# Altium schematic symbol library POWER.SchLib: 28 symbols
Pins are listed as number, name and electrical type; pins without a type are passive.

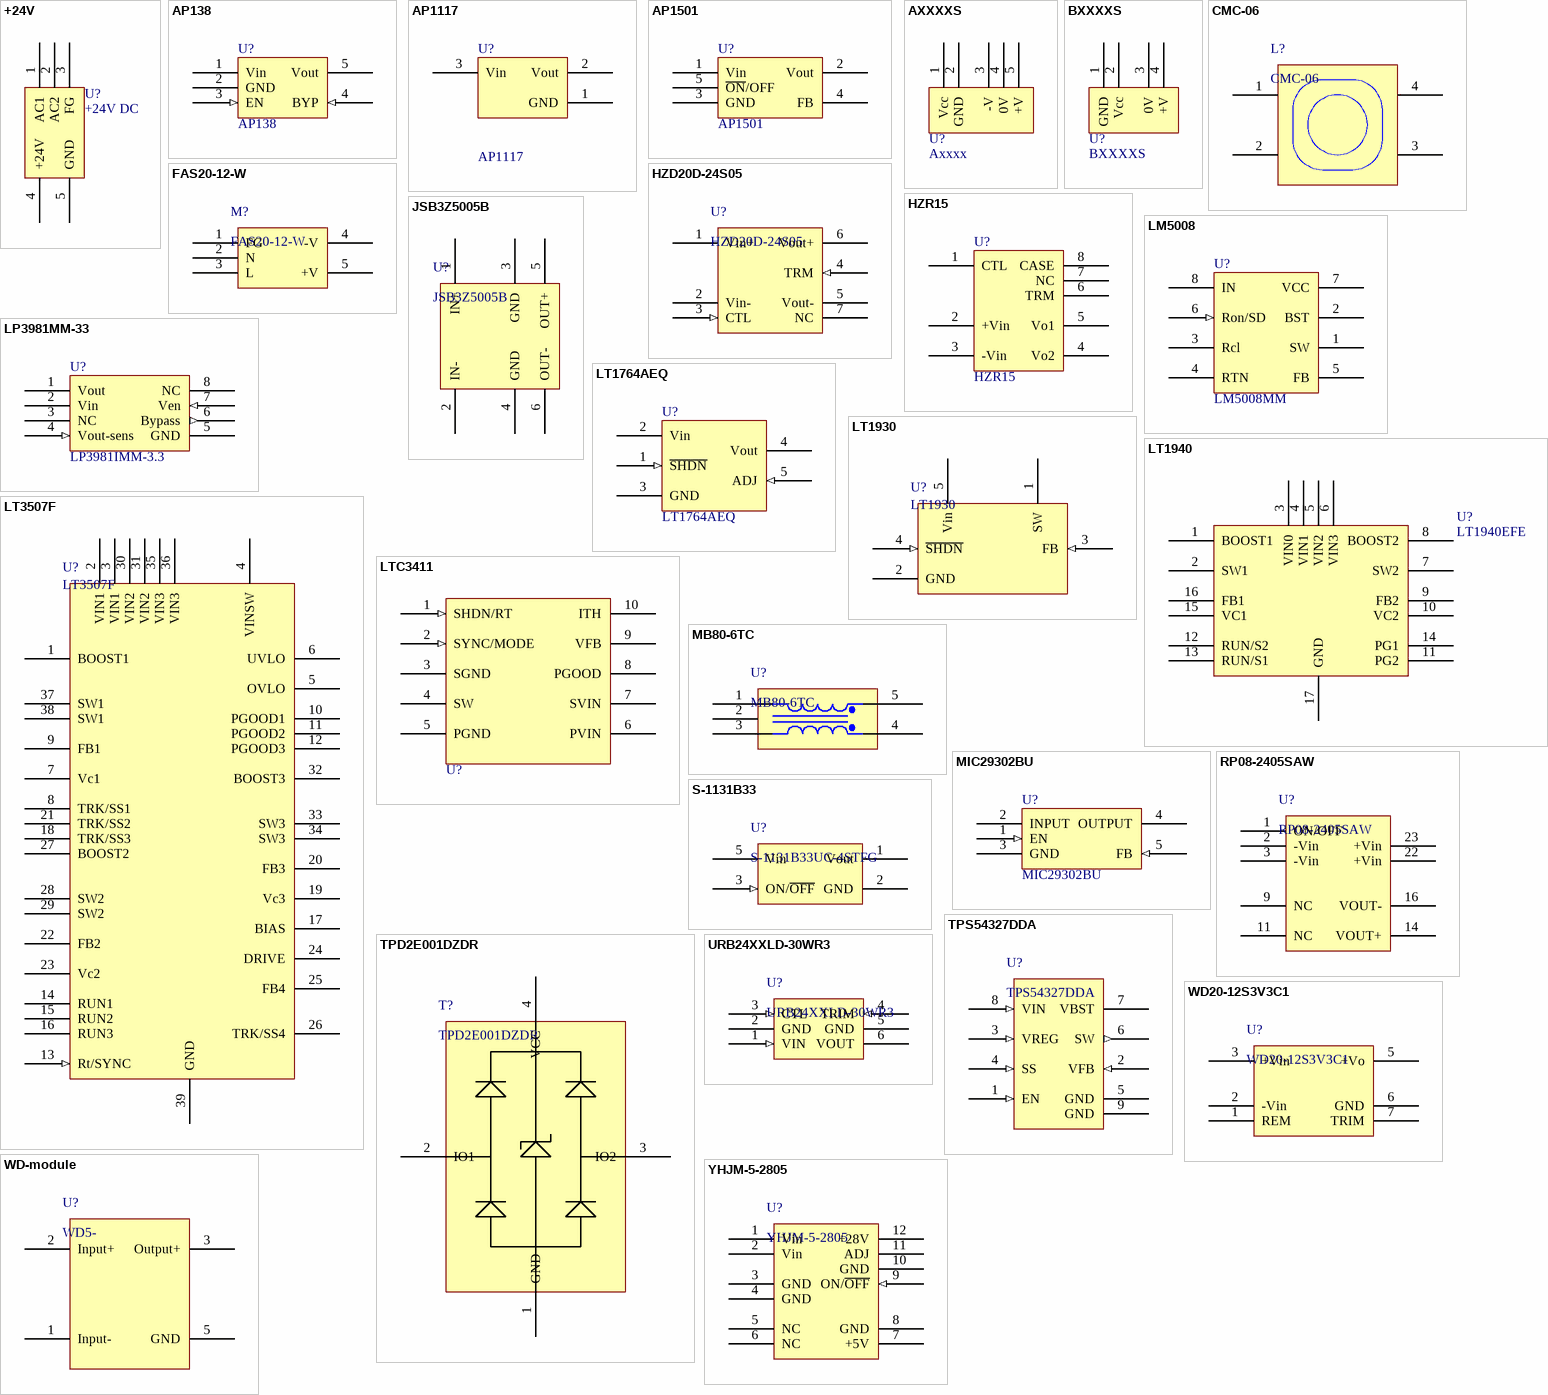
[diagram p0: symbols +24V to YHJM-5-2805]

## +24V
designator U?, comment +24V DC
AC-DC Module; Value: +24V
footprint +12v (ac220v->+12v,+24v)
pins: 1 AC1 (power), 2 AC2 (power), 3 FG (power), 4 +24V (power), 5 GND (power)

## AP138
designator U?
LDO; Value: AP138
footprint SO-G5/P.95 (SOT-23/SC-74A; 5 Leads; Body 3.1 x 3 mm, inc. leads (LxW max))
pins: 1 Vin (power), 2 GND (power), 3 EN (in), 4 BYP (in), 5 Vout (power)

## AP1117
designator U?
LDO; Value: AP1117
footprint SOT223-3L (FOR AP1117)
pins: 1 GND (power), 2 Vout (power), 3 Vin (power)

## AP1501
designator U?
3A DC-DC; Company: Anachip; Value: AP1501
footprint TO263-5L
pins: 1 Vin (power), 2 Vout (power), 3 GND (power), 4 FB (power), 5 ~{ON}/OFF (power)

## AXXXXS
designator U?, comment Axxxx
DC-DC; Value: Axxxx
footprint AXXXXS (DC-DC POWER)
pins: 1 Vcc (power), 2 GND (power), 3 -V (power), 4 0V (power), 5 +V (power)

## BXXXXS
designator U?
DC-DC; Value: BxxxxS
footprint BXXXXS (DC-DC POWER 5V-5V)
pins: 1 GND (power), 2 Vcc (power), 3 0V (power), 4 +V (power)

## CMC-06
designator L?
COMMON MODE FILTER
footprint CMC-06 (Footprint not found)
pins: 1, 2, 3, 4

## FAS20-12-W
designator M?
footprint FAS20-20/30W
pins: 1 FG (power), 2 N (power), 3 L (power), 4 -V (power), 5 +V (power)

## HZD20D-24S05
designator U?
DCDC
footprint HZD20D-24S05 (DCDC)
pins: 1 Vin+, 2 Vin-, 3 CTL (in), 4 TRM (in), 5 Vout-, 6 Vout+, 7 NC

## HZR15
designator U?
DC/AC RING POWER MODULE
footprint HRZ15 (DC-AC RING SOURCE)
pins: 1 CTL, 2 +Vin (power), 3 -Vin (power), 4 Vo2 (power), 5 Vo1 (power), 6 TRM, 7 NC, 8 CASE

## JSB3Z5005B
designator U?
直流滤波器
footprint JSB3Z5005B (直流滤波器)
pins: 1 IN+, 2 IN-, 3 GND, 4 GND, 5 OUT+, 6 OUT-

## LM5008
designator U?, comment LM5008MM
SWITCHING REGULATOR; Company: NSC
footprint MSOP8
pins: 1 SW (power), 2 BST, 3 Rcl, 4 RTN, 5 FB, 6 Ron/SD (in), 7 VCC (power), 8 IN (power)

## LP3981MM-33
designator U?, comment LP3981IMM-3.3
LDO; Value: LP3981MM-33
footprint MSOP-8 (25.6mil,189mil HIGHT)
pins: 1 Vout (power), 2 Vin (power), 3 NC (hiz), 4 Vout-sens (in), 5 GND (power), 6 Bypass (out), 7 Ven (in), 8 NC (hiz)

## LT1764AEQ
designator U?
footprint TO263-5L
pins: 1 ~{SHDN} (in), 2 Vin (power), 3 GND (power), 4 Vout (power), 5 ADJ (in)

## LT1930
designator U?
1A 2.2MHz Step-up DC/DC
footprint SOT23-5 (SOT23-5 FOR LT1930)
pins: 1 SW (power), 2 GND (power), 3 FB (in), 4 ~{SHDN} (in), 5 Vin (power)

## LT1940
designator U?, comment LT1940EFE
DC-DC; Value: LT1940EFE
footprint TSSOP16(LT1940)
pins: 1 BOOST1 (power), 2 SW1 (power), 3 VIN0 (power), 4 VIN1 (power), 5 VIN2 (power), 6 VIN3 (power), 7 SW2 (power), 8 BOOST2 (power), 9 FB2 (power), 10 VC2 (power), 11 PG2 (oc), 12 RUN/S2 (power), 13 RUN/S1 (power), 14 PG1 (oc), 15 VC1 (power), 16 FB1 (power), 17 GND (power)

## LT3507F
designator U?
Triple Monolithic Step-down Regulator with LDO
footprint QFN38 (For LT3507F)
pins: 1 BOOST1 (power), 2 VIN1 (power), 3 VIN1 (power), 4 VINSW (power), 5 OVLO (power), 6 UVLO (power), 7 Vc1 (power), 8 TRK/SS1 (power), 9 FB1 (power), 10 PGOOD1 (oc), 11 PGOOD2 (oc), 12 PGOOD3 (oc), 13 Rt/SYNC (in), 14 RUN1 (oc), 15 RUN2 (oc), 16 RUN3 (oc), 17 BIAS (power), 18 TRK/SS3 (power), 19 Vc3 (power), 20 FB3 (power), 21 TRK/SS2 (power), 22 FB2 (power), 23 Vc2 (power), 24 DRIVE (power), 25 FB4 (power), 26 TRK/SS4 (power), 27 BOOST2 (power), 28 SW2 (power), 29 SW2 (power), 30 VIN2 (power), 31 VIN2 (power), 32 BOOST3 (power), 33 SW3 (power), 34 SW3 (power), 35 VIN3 (power), 36 VIN3 (power), 37 SW1 (power), 38 SW1 (power), 39 GND (power)

## LTC3411
designator U?, comment DC/DC CONVERTOR  (value not drawn)
1.25A 4MHz; Value: LTC3411EMS; Company: Linear
footprint TSSO3x5-G10 (Shrink Small Outline; 10 Leads; Body Width 3 mm; Pitch 0.5 mm)
pins: 1 SHDN/RT (in), 2 SYNC/MODE (in), 3 SGND (power), 4 SW (power), 5 PGND (power), 6 PVIN (power), 7 SVIN (power), 8 PGOOD (oc), 9 VFB (power), 10 ITH (power)

## MB80-6TC
designator U?
DC FILTER
footprint MB80-6TC (DC FILTER)
pins: 1 V1 (power), 1 Pri+, 2 G (power), 2 Pri-, 3 V2 (power), 3 Sec+, 4 V2' (power), 5 V1' (power), 5 Sec-

## MIC29302BU
designator U?
3A LDO; Company: MICREL
footprint TO263-5L
pins: 1 EN (in), 2 INPUT (power), 3 GND (power), 4 OUTPUT (power), 5 FB (in)

## RP08-2405SAW
designator U?
8W DIP24 SINGLE OUPUT
footprint RP08
pins: 1 ON/OFF, 2 -Vin, 3 -Vin, 9 NC, 11 NC, 14 VOUT+, 16 VOUT-, 22 +Vin, 23 +Vin

## S-1131B33
designator U?, comment S-1131B33UC-4STFG
footprint SOT895-A (FOR S-1131B33UC-N4STFG)
pins: 1 Vout (power), 2 GND (power), 3 ON/~{OFF} (in), 5 Vin (power)

## TPD2E001DZDR
designator T?
LOW CAPACITANCE T CHANNELS ESD PROTECTOR
footprint SOT143L (SOT143, 4-Leads, Body 2.9x1.3mm, Pitch 1.9mm, Lead Span 2.5mm, IPC High Density)
pins: 1 GND, 2 IO1, 3 IO2, 4 VCC

## TPS54327DDA
designator U?
3A SETP DOWN SWTICHER
footprint SOIC127P600X170_HS-8N (SOIC, 8-Leads, Body 6.0x4.0mm (max), Pitch 1.27mm, IPC Medium Density)
pins: 1 EN (in), 2 VFB (in), 3 VREG (in), 4 SS (in), 5 GND, 6 SW (out), 7 VBST, 8 VIN (in), 9 GND

## URB24XXLD-30WR3
designator U?
DC-DC,30W
footprint URB24XXLD-30WR3 (DCDC)
pins: 1 VIN (in), 2 GND, 3 CTL (in), 4 TRIM (in), 5 GND, 6 VOUT (power)

## WD20-12S3V3C1
designator U?
DCDC电源模块
footprint WD20-12S (DCDC)
pins: 1 REM, 2 -Vin, 3 +Vin, 5 +Vo, 6 GND, 7 TRIM

## WD-module
designator U?, comment WD5-
footprint WD5
pins: 1 Input-, 2 Input+, 3 Output+, 5 GND

## YHJM-5-2805
designator U?
DC/DC
footprint YHJM-5-2805 (DC/DC)
pins: 1 Vin (power), 2 Vin (power), 3 GND (power), 4 GND (power), 5 NC (power), 6 NC (power), 7 +5V (power), 8 GND (power), 9 ON/~{OFF} (in), 10 GND (power), 11 ADJ (power), 12 +28V (power)